# EAGLE library part EUROPAKARTE-VG32-AC (library Transputer)
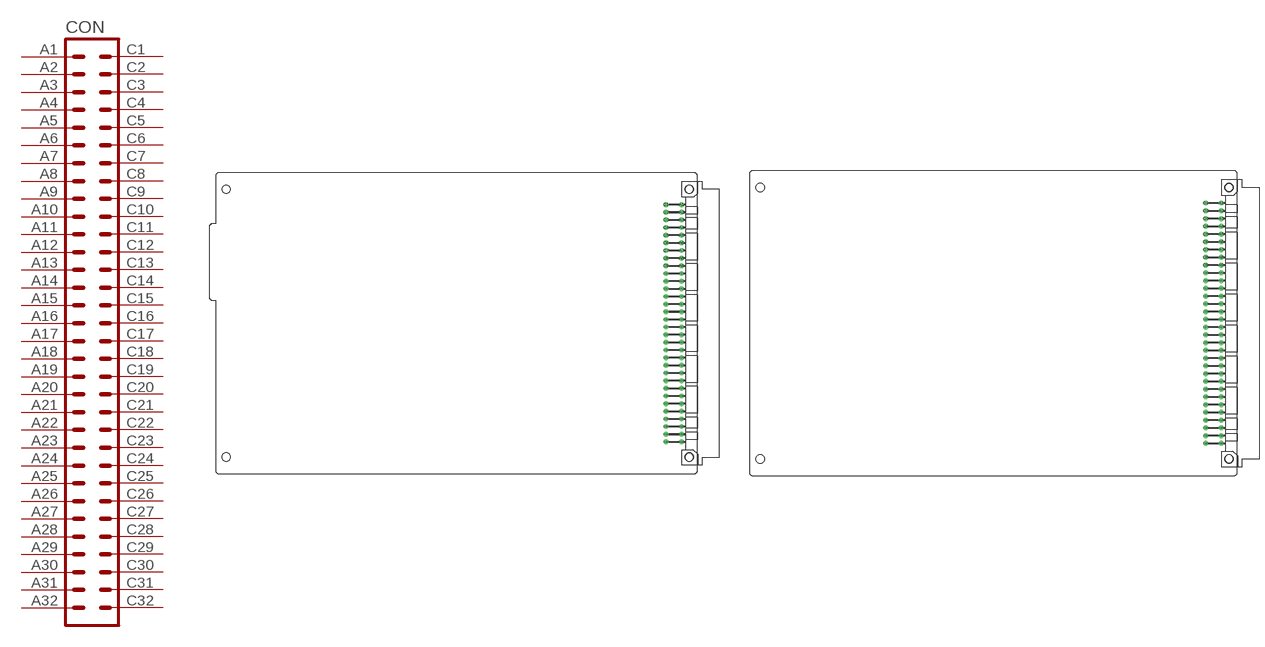
[diagram p1: symbol with the pads of EUROPAKARTE-TB4; footprints EUROPAKARTE-TB4, EUROPAKARTE]

Designator prefix CON

## EUROPAKARTE-VG32-AC-TB4  [EUROPAKARTE-TB4]
A1  A1  pas
A2  A2  pas
A3  A3  pas
A4  A4  pas
A5  A5  pas
A6  A6  pas
A7  A7  pas
A8  A8  pas
A9  A9  pas
A10  A10  pas
A11  A11  pas
A12  A12  pas
A13  A13  pas
A14  A14  pas
A15  A15  pas
A16  A16  pas
A17  A17  pas
A18  A18  pas
A19  A19  pas
A20  A20  pas
A21  A21  pas
A22  A22  pas
A23  A23  pas
A24  A24  pas
A25  A25  pas
A26  A26  pas
A27  A27  pas
A28  A28  pas
A29  A29  pas
A30  A30  pas
A31  A31  pas
A32  A32  pas
C1  C1  pas
C2  C2  pas
C3  C3  pas
C4  C4  pas
C5  C5  pas
C6  C6  pas
C7  C7  pas
C8  C8  pas
C9  C9  pas
C10  C10  pas
C11  C11  pas
C12  C12  pas
C13  C13  pas
C14  C14  pas
C15  C15  pas
C16  C16  pas
C17  C17  pas
C18  C18  pas
C19  C19  pas
C20  C20  pas
C21  C21  pas
C22  C22  pas
C23  C23  pas
C24  C24  pas
C25  C25  pas
C26  C26  pas
C27  C27  pas
C28  C28  pas
C29  C29  pas
C30  C30  pas
C31  C31  pas
C32  C32  pas

## EUROPAKARTE-VG32-AC  [EUROPAKARTE]
Pads as for EUROPAKARTE-TB4

## Footprint EUROPAKARTE-TB4 (pad centres in mm)
drill 0.914 pad 1.6: A1 71.12,39.37; A2 71.12,36.83; A3 71.12,34.29; A4 71.12,31.75; A5 71.12,29.21; A6 71.12,26.67; A7 71.12,24.13; A8 71.12,21.59; A9 71.12,19.05; A10 71.12,16.51; A11 71.12,13.97; A12 71.12,11.43; A13 71.12,8.89; A14 71.12,6.35; A15 71.12,3.81; A16 71.12,1.27; A17 71.12,-1.27; A18 71.12,-3.81; A19 71.12,-6.35; A20 71.12,-8.89; A21 71.12,-11.43; A22 71.12,-13.97; A23 71.12,-16.51; A24 71.12,-19.05; A25 71.12,-21.59; A26 71.12,-24.13; A27 71.12,-26.67; A28 71.12,-29.21; A29 71.12,-31.75; A30 71.12,-34.29; A31 71.12,-36.83; A32 71.12,-39.37; C1 66.04,39.37; C2 66.04,36.83; C3 66.04,34.29; C4 66.04,31.75; C5 66.04,29.21; C6 66.04,26.67; C7 66.04,24.13; C8 66.04,21.59; C9 66.04,19.05; C10 66.04,16.51; C11 66.04,13.97; C12 66.04,11.43; C13 66.04,8.89; C14 66.04,6.35; C15 66.04,3.81; C16 66.04,1.27; C17 66.04,-1.27; C18 66.04,-3.81; C19 66.04,-6.35; C20 66.04,-8.89; C21 66.04,-11.43; C22 66.04,-13.97; C23 66.04,-16.51; C24 66.04,-19.05; C25 66.04,-21.59; C26 66.04,-24.13; C27 66.04,-26.67; C28 66.04,-29.21; C29 66.04,-31.75; C30 66.04,-34.29; C31 66.04,-36.83; C32 66.04,-39.37
hole 2.794 at 73.66,44.45
hole 2.794 at 73.66,-44.45
hole 2.794 at -80.01,-44.45
hole 2.794 at -80.01,44.45

## Footprint EUROPAKARTE (pad centres in mm)
drill 0.914 pad 1.6: A1 71.12,39.37; A2 71.12,36.83; A3 71.12,34.29; A4 71.12,31.75; A5 71.12,29.21; A6 71.12,26.67; A7 71.12,24.13; A8 71.12,21.59; A9 71.12,19.05; A10 71.12,16.51; A11 71.12,13.97; A12 71.12,11.43; A13 71.12,8.89; A14 71.12,6.35; A15 71.12,3.81; A16 71.12,1.27; A17 71.12,-1.27; A18 71.12,-3.81; A19 71.12,-6.35; A20 71.12,-8.89; A21 71.12,-11.43; A22 71.12,-13.97; A23 71.12,-16.51; A24 71.12,-19.05; A25 71.12,-21.59; A26 71.12,-24.13; A27 71.12,-26.67; A28 71.12,-29.21; A29 71.12,-31.75; A30 71.12,-34.29; A31 71.12,-36.83; A32 71.12,-39.37; C1 66.04,39.37; C2 66.04,36.83; C3 66.04,34.29; C4 66.04,31.75; C5 66.04,29.21; C6 66.04,26.67; C7 66.04,24.13; C8 66.04,21.59; C9 66.04,19.05; C10 66.04,16.51; C11 66.04,13.97; C12 66.04,11.43; C13 66.04,8.89; C14 66.04,6.35; C15 66.04,3.81; C16 66.04,1.27; C17 66.04,-1.27; C18 66.04,-3.81; C19 66.04,-6.35; C20 66.04,-8.89; C21 66.04,-11.43; C22 66.04,-13.97; C23 66.04,-16.51; C24 66.04,-19.05; C25 66.04,-21.59; C26 66.04,-24.13; C27 66.04,-26.67; C28 66.04,-29.21; C29 66.04,-31.75; C30 66.04,-34.29; C31 66.04,-36.83; C32 66.04,-39.37
hole 2.794 at 73.66,44.45
hole 2.794 at 73.66,-44.45
hole 2.794 at -80.01,-44.45
hole 2.794 at -80.01,44.45